# EAGLE library part STM32F373_LQFP48 (library analog)
STM32F373_LQFP48 edit this description Auto generated by make-symbol-device-package-bsdl.ulp Rev. 44 Source: STM32F373_LQFP48.bsd
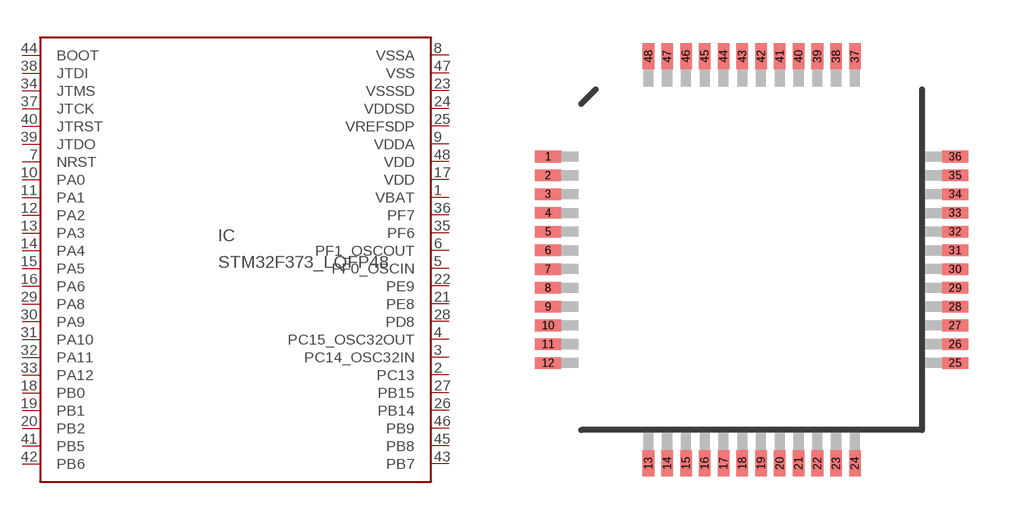
[diagram p0: symbol with the pads of LQFP48_PACKAGE; footprint LQFP48_PACKAGE]

Designator prefix IC

## STM32F373_LQFP48  [LQFP48_PACKAGE]
1  VBAT  pas
2  PC13
3  PC14_OSC32IN
4  PC15_OSC32OUT
5  PF0_OSCIN
6  PF1_OSCOUT
7  NRST  in
8  VSSA  pwr
9  VDDA  pwr
10  PA0
11  PA1
12  PA2
13  PA3
14  PA4
15  PA5
16  PA6
17  VDD  pwr
18  PB0
19  PB1
20  PB2
21  PE8
22  PE9
23  VSSSD  pwr
24  VDDSD  pwr
25  VREFSDP  pas
26  PB14
27  PB15
28  PD8
29  PA8
30  PA9
31  PA10
32  PA11
33  PA12
34  JTMS  in
35  PF6
36  PF7
37  JTCK  in
38  JTDI  in
39  JTDO  out
40  JTRST  in
41  PB5
42  PB6
43  PB7
44  BOOT  in
45  PB8
46  PB9
47  VSS  pwr
48  VDD  pwr

## Footprint LQFP48_PACKAGE (pad centres in mm)
LQFP48_PACKAGE Auto generated by make-symbol-device-package-bsdl.ulp Rev. 44
smd 0.9 x 0.4: 1 -7.05,3.575; 2 -7.05,2.925; 3 -7.05,2.275; 4 -7.05,1.625; 5 -7.05,0.975; 6 -7.05,0.325; 7 -7.05,-0.325; 8 -7.05,-0.975; 9 -7.05,-1.625; 10 -7.05,-2.275; 11 -7.05,-2.925; 12 -7.05,-3.575; 25 7.05,-3.575; 26 7.05,-2.925; 27 7.05,-2.275; 28 7.05,-1.625; 29 7.05,-0.975; 30 7.05,-0.325; 31 7.05,0.325; 32 7.05,0.975; 33 7.05,1.625; 34 7.05,2.275; 35 7.05,2.925; 36 7.05,3.575
smd 0.4 x 0.9: 13 -3.575,-7.05; 14 -2.925,-7.05; 15 -2.275,-7.05; 16 -1.625,-7.05; 17 -0.975,-7.05; 18 -0.325,-7.05; 19 0.325,-7.05; 20 0.975,-7.05; 21 1.625,-7.05; 22 2.275,-7.05; 23 2.925,-7.05; 24 3.575,-7.05; 37 3.575,7.05; 38 2.925,7.05; 39 2.275,7.05; 40 1.625,7.05; 41 0.975,7.05; 42 0.325,7.05; 43 -0.325,7.05; 44 -0.975,7.05; 45 -1.625,7.05; 46 -2.275,7.05; 47 -2.925,7.05; 48 -3.575,7.05